# EAGLE library part NET2272 (library plxtech)
NET2272 USB 2.0 Peripheral Controller Source: http://www.plxtech.com/dts/download.asp?f=NET2000/2272/Net2272.spec.re040615.pdf
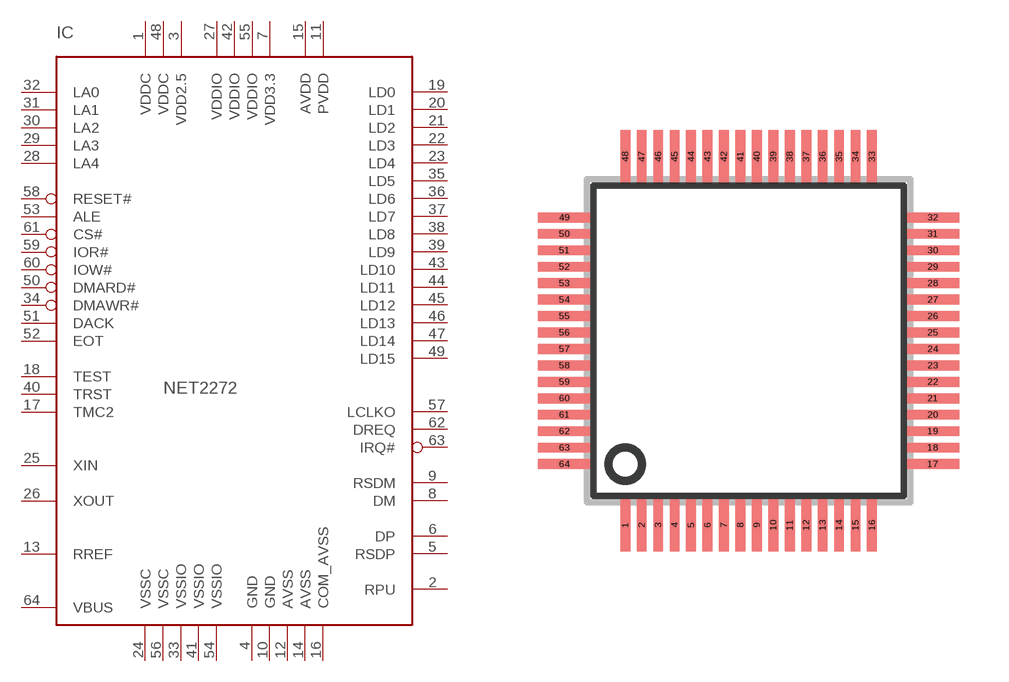
[diagram p1: symbol with the pads of TQFP64; footprint TQFP64]

Designator prefix IC

## NET2272  [TQFP64]
1  VDDC  pwr
2  RPU  out
3  VDD2.5  pwr
4  GND  pwr
5  RSDP  out
6  DP
7  VDD3.3  pwr
8  DM
9  RSDM  out
10  GND  pwr
11  PVDD  pwr
12  AVSS  pwr
13  RREF  in
14  AVSS  pwr
15  AVDD  pwr
16  COM_AVSS  pwr
17  TMC2  in
18  TEST  in
19  LD0
20  LD1
21  LD2
22  LD3
23  LD4
24  VSSC  pwr
25  XIN  in
26  XOUT  out
27  VDDIO  pwr
28  LA4  in
29  LA3  in
30  LA2  in
31  LA1  in
32  LA0  in
33  VSSIO  pwr
34  DMAWR#  in
35  LD5
36  LD6
37  LD7
38  LD8
39  LD9
40  TRST  in
41  VSSIO  pwr
42  VDDIO  pwr
43  LD10
44  LD11
45  LD12
46  LD13
47  LD14
48  VDDC  pwr
49  LD15
50  DMARD#  in
51  DACK  in
52  EOT  in
53  ALE  in
54  VSSIO  pwr
55  VDDIO  pwr
56  VSSC  pwr
57  LCLKO  out
58  RESET#  in
59  IOR#  in
60  IOW#  in
61  CS#  in
62  DREQ  out
63  IRQ#  out
64  VBUS  in

## Footprint TQFP64 (pad centres in mm)
64-PIN PLASTIC TQFP (10x10) shrink quad flat pack, square Source: SQFP-S-10X10-64 ipc-smd.lbr
smd 0.3 x 1.6: 1 -3.75,-5.6; 2 -3.25,-5.6; 3 -2.75,-5.6; 4 -2.25,-5.6; 5 -1.75,-5.6; 6 -1.25,-5.6; 7 -0.75,-5.6; 8 -0.25,-5.6; 9 0.25,-5.6; 10 0.75,-5.6; 11 1.25,-5.6; 12 1.75,-5.6; 13 2.25,-5.6; 14 2.75,-5.6; 15 3.25,-5.6; 16 3.75,-5.6; 33 3.75,5.6; 34 3.25,5.6; 35 2.75,5.6; 36 2.25,5.6; 37 1.75,5.6; 38 1.25,5.6; 39 0.75,5.6; 40 0.25,5.6; 41 -0.25,5.6; 42 -0.75,5.6; 43 -1.25,5.6; 44 -1.75,5.6; 45 -2.25,5.6; 46 -2.75,5.6; 47 -3.25,5.6; 48 -3.75,5.6
smd 1.6 x 0.3: 17 5.6,-3.75; 18 5.6,-3.25; 19 5.6,-2.75; 20 5.6,-2.25; 21 5.6,-1.75; 22 5.6,-1.25; 23 5.6,-0.75; 24 5.6,-0.25; 25 5.6,0.25; 26 5.6,0.75; 27 5.6,1.25; 28 5.6,1.75; 29 5.6,2.25; 30 5.6,2.75; 31 5.6,3.25; 32 5.6,3.75; 49 -5.6,3.75; 50 -5.6,3.25; 51 -5.6,2.75; 52 -5.6,2.25; 53 -5.6,1.75; 54 -5.6,1.25; 55 -5.6,0.75; 56 -5.6,0.25; 57 -5.6,-0.25; 58 -5.6,-0.75; 59 -5.6,-1.25; 60 -5.6,-1.75; 61 -5.6,-2.25; 62 -5.6,-2.75; 63 -5.6,-3.25; 64 -5.6,-3.75